# Altium footprint library RP2040.PcbLib: 1 footprints
Each footprint in its own frame and in the unit in brackets; x right, y up, seen from the top. Pads: shape width x height; smd on the part's side, far side on the other; paste and mask are expansions set on the pad; w line width, h text height; cw(c..) or ccw(c..) is an arc to the next point about the centre after c.
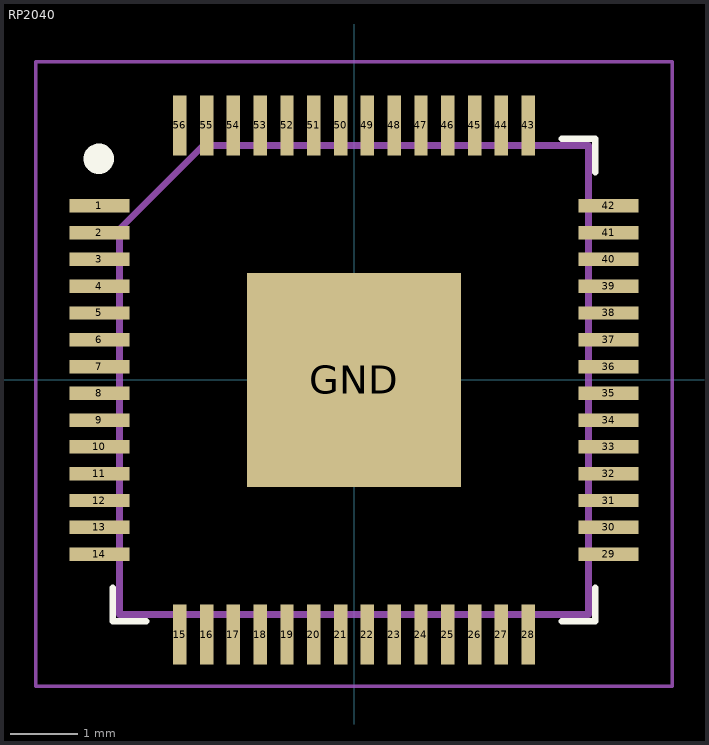
[diagram p0: the footprint, top view; thin cyan lines are the x and y axes]

## RP2040 [mm]
pads (57):
  rect 0.9x0.2 smd paste-0.04: 1(-3.8,2.6) 2(-3.8,2.2) 3(-3.8,1.8) 4(-3.8,1.4) 5(-3.8,1) 6(-3.8,0.6) 7(-3.8,0.2) 8(-3.8,-0.2) 9(-3.8,-0.6) 10(-3.8,-1) 11(-3.8,-1.4) 12(-3.8,-1.8) 13(-3.8,-2.2) 14(-3.8,-2.6) 29(3.8,-2.6) 30(3.8,-2.2) 31(3.8,-1.8) 32(3.8,-1.4) 33(3.8,-1) 34(3.8,-0.6) 35(3.8,-0.2) 36(3.8,0.2) 37(3.8,0.6) 38(3.8,1) 39(3.8,1.4) 40(3.8,1.8) 41(3.8,2.2) 42(3.8,2.6)
  rect 0.2x0.9 smd paste-0.04: 15(-2.6,-3.8) 16(-2.2,-3.8) 17(-1.8,-3.8) 18(-1.4,-3.8) 19(-1,-3.8) 20(-0.6,-3.8) 21(-0.2,-3.8) 22(0.2,-3.8) 23(0.6,-3.8) 24(1,-3.8) 25(1.4,-3.8) 26(1.8,-3.8) 27(2.2,-3.8) 28(2.6,-3.8) 43(2.6,3.8) 44(2.2,3.8) 45(1.8,3.8) 46(1.4,3.8) 47(1,3.8) 48(0.6,3.8) 49(0.2,3.8) 50(-0.2,3.8) 51(-0.6,3.8) 52(-1,3.8) 53(-1.4,3.8) 54(-1.8,3.8) 55(-2.2,3.8) 56(-2.6,3.8)
  rect 3.2x3.2 smd paste-0.6: GND(0,0)
Top Overlay:
  circle w0.254: c-3.81,3.302 r0.1
  lines w0.1: -3.6,-3.1 -3.6,-3.6 -3.1,-3.6 ; 3.1,-3.6 3.6,-3.6 3.6,-3.1 ; 3.1,3.6 3.6,3.6 3.6,3.1
Mechanical 1:
  lines w0.1: -3.5,-3.5 3.5,-3.5 3.5,3.5 -2.25,3.5 -3.5,2.25 -3.5,-3.5
  text ".Designator" at -3.304,-0.293 h0.65
Mechanical 2:
  lines w0.05: -4.75,-4.572 4.75,-4.572 4.75,4.75 -4.75,4.75 -4.75,-4.572
  lines w0.1: -0.5,0 0.5,0 ; 0,-0.5 0,0.5
3D body "IC57_RP2040.step": height 0.89, standoff 0, extent -3.505,-3.505 3.505,3.505